# Altium footprint library SOICW-16.PcbLib: 1 footprints
Each footprint in its own frame and in the unit in brackets; x right, y up, seen from the top. Pads: shape width x height; smd on the part's side, far side on the other; paste and mask are expansions set on the pad; w line width, h text height; cw(c..) or ccw(c..) is an arc to the next point about the centre after c.
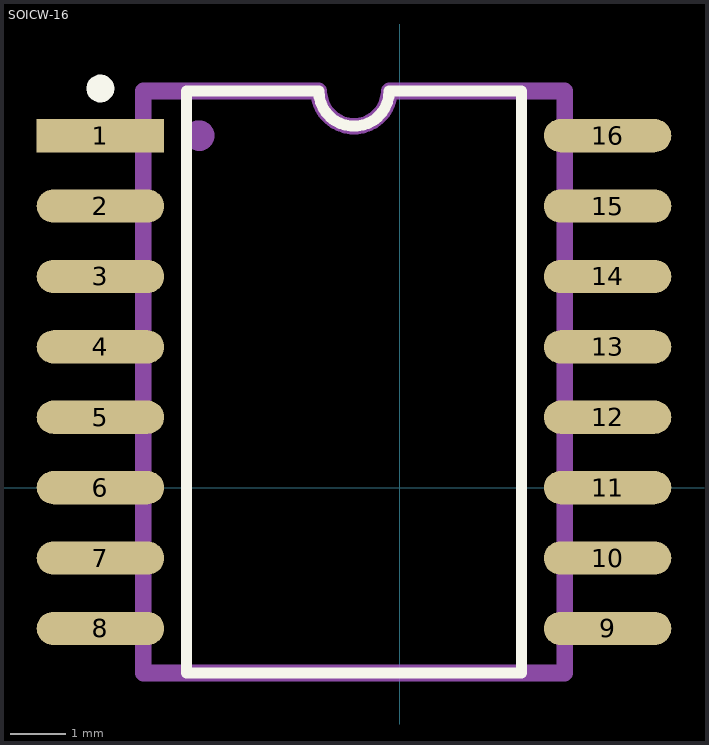
[diagram p0: the footprint, top view; thin cyan lines are the x and y axes]

## SOICW-16 [mm]
pads (16):
  rect 2.3x0.6 smd: 1(-5.4,6.35)
  oval 2.3x0.6 smd: 2(-5.4,5.08) 3(-5.4,3.81) 4(-5.4,2.54) 5(-5.4,1.27) 6(-5.4,0) 7(-5.4,-1.27) 8(-5.4,-2.54) 9(3.749,-2.54) 10(3.749,-1.27) 11(3.749,0) 12(3.749,1.27) 13(3.749,2.54) 14(3.749,3.81) 15(3.749,5.08) 16(3.749,6.35)
Top Overlay:
  circle w0.25: c-5.4,7.2 r0.125
  lines w0.2: -3.851,-3.345 -3.851,7.155 -1.46,7.155 ccw(c-0.826,7.155) -0.191,7.155 2.2,7.155 2.2,-3.345 -3.851,-3.345
Mechanical 13:
  circle w0.3: c-3.619,6.35 r0.127
  lines w0.3: -4.626,-3.345 -4.626,7.155 -1.46,7.155 ccw(c-0.826,7.155) -0.191,7.155 2.975,7.155 2.975,-3.345 -4.626,-3.345
  text ".Designator" at -1.46,4.699 h2.5
3D body: height 2.65, standoff 0, extent -6.032,-3.245 4.267,7.055